# Altium schematic symbol library A4988.SchLib: 1 symbol
Pins are listed as number, name and electrical type; pins without a type are passive.

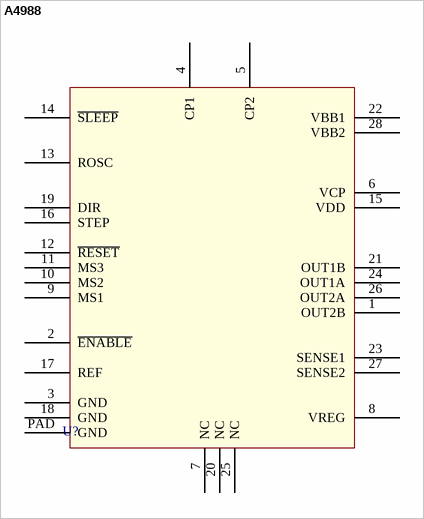
[diagram p0: symbol A4988]

## A4988
designator U?  (value not drawn)
Stepper Motor Driver; Manufacturer Part No.: A4988SETTR-T; Digi-Key Part No.: 620-1343-1-ND
footprint A4988 (Stepper Driver)
pins: 1 OUT2B, 2 ~{ENABLE}, 3 GND, 4 CP1, 5 CP2, 6 VCP, 7 NC, 8 VREG, 9 MS1, 10 MS2, 11 MS3, 12 ~{RESET}, 13 ROSC, 14 ~{SLEEP}, 15 VDD, 16 STEP, 17 REF, 18 GND, 19 DIR, 20 NC, 21 OUT1B, 22 VBB1, 23 SENSE1, 24 OUT1A, 25 NC, 26 OUT2A, 27 SENSE2, 28 VBB2, PAD GND